# Altium schematic symbol library 0ZCF0250FF2C.SchLib: 2 symbols
Pins are listed as number, name and electrical type; pins without a type are passive.

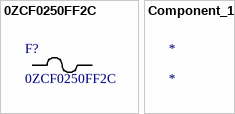
[diagram p0: symbols 0ZCF0250FF2C to Component_1]

## 0ZCF0250FF2C
designator F?
No Description Available; Built_By: EMA_UL_Team; Vendor: Bel Fuse Inc; SourceLibrary: BelFuse_2015-08-18; Type: DEV; Manufacturer_Part_Number: 0ZCF0250FF2C; Copyright: Copyright (C) 2018 Accelerated Designs. All rights reserved; RefDes: RefDes
footprint 0ZCF_BEL
pins: 1, 2

## Component_1
designator *